# EAGLE library part AD9913 (library ICs)
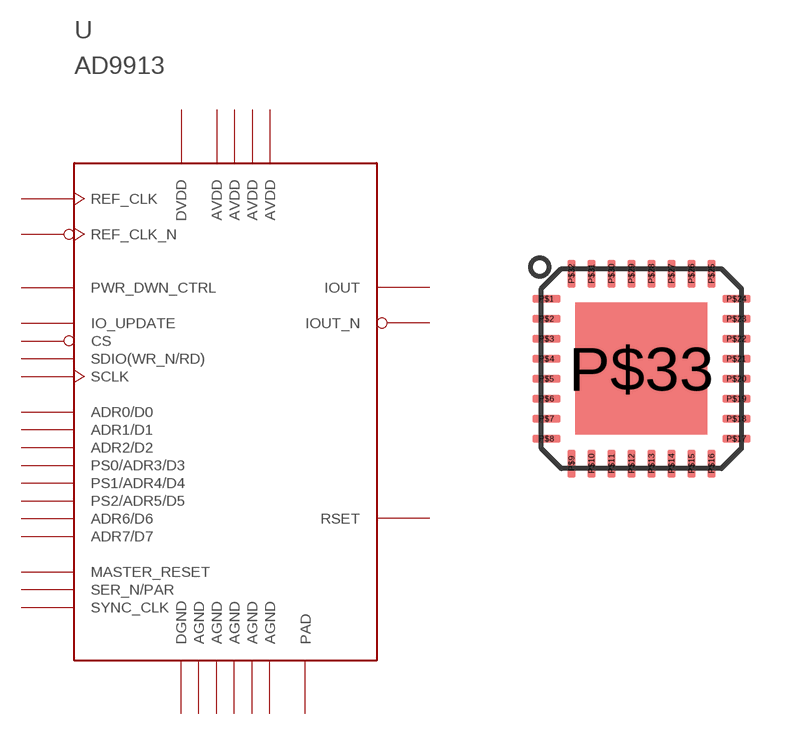
[diagram p0: symbol with the pads of 32-LFCSP; footprint 32-LFCSP]

Designator prefix U

## AD9913  [32-LFCSP]
P$1  PS2/ADR5/D5
P$2  PS1/ADR4/D4
P$3  PS0/ADR3/D3
P$4  DVDD  pwr
P$5  DGND  pwr
P$6  ADR2/D2
P$7  ADR1/D1
P$8  ADR0/D0
P$9  SYNC_CLK
P$10  SER_N/PAR
P$11  AGND  pwr
P$12  AVDD  pwr
P$13  REF_CLK
P$14  REF_CLK_N
P$15  AGND  pwr
P$16  AVDD  pwr
P$17  AVDD  pwr
P$18  AGND  pwr
P$19  IOUT  out
P$20  IOUT_N  out
P$21  AGND  pwr
P$22  AVDD  pwr
P$23  AGND  pwr
P$24  RSET
P$25  MASTER_RESET
P$26  PWR_DWN_CTRL
P$27  IO_UPDATE
P$28  CS
P$29  SDIO(WR_N/RD)
P$30  SCLK
P$31  ADR7/D7
P$32  ADR6/D6
P$33  PAD  pwr

## Footprint 32-LFCSP (pad centres in mm)
smd 0.7 x 0.2: P$1 -2.375,1.75; P$2 -2.375,1.25; P$3 -2.375,0.75; P$4 -2.375,0.25; P$5 -2.375,-0.25; P$6 -2.375,-0.75; P$7 -2.375,-1.25; P$8 -2.375,-1.75; P$17 2.375,-1.75; P$18 2.375,-1.25; P$19 2.375,-0.75; P$20 2.375,-0.25; P$21 2.375,0.25; P$22 2.375,0.75; P$23 2.375,1.25; P$24 2.375,1.75
smd 0.2 x 0.7: P$9 -1.75,-2.375; P$10 -1.25,-2.375; P$11 -0.75,-2.375; P$12 -0.25,-2.375; P$13 0.25,-2.375; P$14 0.75,-2.375; P$15 1.25,-2.375; P$16 1.75,-2.375; P$25 1.75,2.375; P$26 1.25,2.375; P$27 0.75,2.375; P$28 0.25,2.375; P$29 -0.25,2.375; P$30 -0.75,2.375; P$31 -1.25,2.375; P$32 -1.75,2.375
smd 3.3 x 3.3: P$33 0,0